# Altium footprint library A0099-D015.PcbLib: 21 footprints (part 2 of 2)
Each footprint in its own frame and in the unit in brackets; x right, y up, seen from the top. Pads: shape width x height; smd on the part's side, far side on the other; paste and mask are expansions set on the pad; w line width, h text height; cw(c..) or ccw(c..) is an arc to the next point about the centre after c.
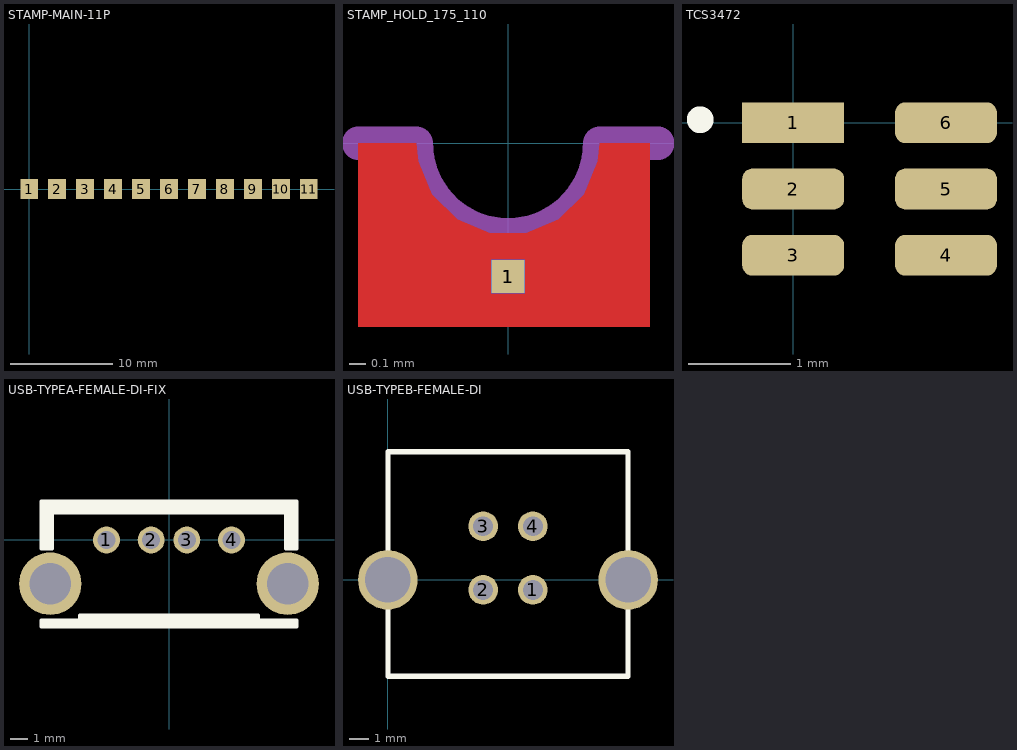
[diagram p1: the footprints below, top view; thin cyan lines are the x and y axes]

## STAMP-MAIN-11P [mm]
pads (11):
  rect 1.75x2 smd: 1(0,0) 2(2.75,0) 3(5.5,0) 4(8.25,0) 5(11,0) 6(13.75,0) 7(16.5,0) 8(19.25,0) 9(22,0) 10(24.75,0) 11(27.5,0)

## STAMP_HOLD_175_110 [mm]
pads (2):
  rect 0.2x0.2 smd mask+0.102: 1(0,-0.8)
  rect 0.2x0.2 smd far side mask+0.102: 1(0,-0.8)
Top Layer:
  region: -0.9,-1.1 0.85,-1.1 0.85,0 0.55,0 0.539,-0.107 0.457,-0.306 0.306,-0.457 0.107,-0.539 -0.107,-0.539 -0.306,-0.457 -0.457,-0.306 -0.539,-0.107 -0.55,0 -0.9,0
Bottom Layer:
  region: -0.9,-1.1 0.85,-1.1 0.85,0 0.55,0 0.539,-0.107 0.457,-0.306 0.306,-0.457 0.107,-0.539 -0.107,-0.539 -0.306,-0.457 -0.457,-0.306 -0.539,-0.107 -0.55,0 -0.9,0
Mechanical 1:
  lines w0.2: -0.9,0 -0.55,0 ccw(c0,0) 0.55,0 0.9,0

## TCS3472 [mm]
pads (6):
  rect 1x0.4 smd: 1(0,0)
  rrect50% 1x0.4 smd: 2(0,-0.65) 3(0,-1.3) 4(1.5,-1.3) 5(1.5,-0.65) 6(1.5,0)
Top Overlay:
  circle w0.2: c-0.912,0.03 r0.032

## USB-TYPEA-FEMALE-DI-FIX [mm]
pads (6):
  round 1.5 hole 1: 1(-3.5,0) 2(-1,0) 3(1,0) 4(3.5,0)
  round 3.5 hole 2.3: ""(-6.65,-2.45) ""(6.65,-2.45)
Top Overlay:
  region: -7.15,-0.5 -7.15,2.18 7.15,2.18 7.15,-0.5 6.55,-0.5 6.55,1.53 -6.55,1.53 -6.55,-0.5
  region: -7.15,-4.87 -7.15,-4.5 -5,-4.5 -5,-4.22 5,-4.22 5,-4.5 7.15,-4.5 7.15,-4.87
  lines w0.2: -7.15,-4.87 -7.15,-4.5 -5,-4.5 -5,-4.22 5,-4.22 5,-4.5 7.15,-4.5 7.15,-4.87 -7.15,-4.87 ; -7.15,-0.5 -6.55,-0.5 -6.55,1.53 6.55,1.53 6.55,-0.5 7.15,-0.5 7.15,2.18 -7.15,2.18 -7.15,-0.5
3D body "14382.stp": height 15, standoff -2.99, extent -7.992,-5.44 7.992,2.2

## USB-TYPEB-FEMALE-DI [mm]
pads (6):
  round 1.5 hole 1: 1(7.3,-0.5) 2(4.8,-0.5) 3(4.8,2.7) 4(7.3,2.7)
  round 3 hole 2.3: ""(0,0) ""(12.1,0)
Top Overlay:
  lines w0.254: 0,-4.85 12.1,-4.85 12.1,6.45 0,6.45 0,-4.85